# EAGLE library part BQ24075 (library BatteryChargerandManagement)
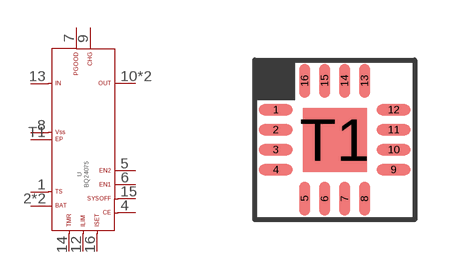
[diagram p0: symbol with the pads of QFN-16; footprint QFN-16]

Designator prefix U

## BQ24075  [QFN-16]
1  TS  pas
2  BAT  pas
3  BAT  pas
4  CE  pas
5  EN2  pas
6  EN1  pas
7  PGOOD  pas
8  VSS  pas
9  CHG  pas
10  OUT  pas
11  OUT  pas
12  ILIM  pas
13  IN  pas
14  TMR  pas
15  SYSOFF  pas
16  ISET  pas
T1  EP  pas

## Footprint QFN-16 (pad centres in mm)
smd 0.85 x 0.28: 1 -1.475,0.75; 2 -1.475,0.25; 3 -1.475,-0.25; 4 -1.475,-0.75; 9 1.475,-0.75; 10 1.475,-0.25; 11 1.475,0.25; 12 1.475,0.75
smd 0.28 x 0.85: 5 -0.75,-1.475; 6 -0.25,-1.475; 7 0.25,-1.475; 8 0.75,-1.475; 13 0.75,1.475; 14 0.25,1.475; 15 -0.25,1.475; 16 -0.75,1.475
smd 1.6 x 1.6: T1 0,0